# Altium footprint library XW05200-04.PcbLib: 1 footprints
Each footprint in its own frame and in the unit in brackets; x right, y up, seen from the top. Pads: shape width x height; smd on the part's side, far side on the other; paste and mask are expansions set on the pad; w line width, h text height; cw(c..) or ccw(c..) is an arc to the next point about the centre after c.
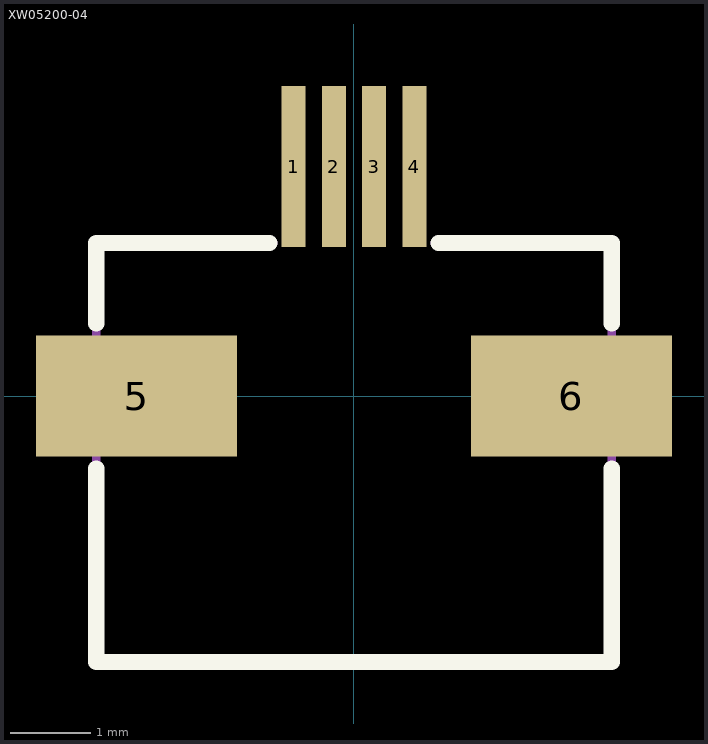
[diagram p0: the footprint, top view; thin cyan lines are the x and y axes]

## XW05200-04 [mm]
pads (6):
  rect 0.3x2 smd: 1(-0.75,2.85) 2(-0.25,2.85) 3(0.25,2.85) 4(0.75,2.85)
  rect 2.5x1.5 smd: 5(-2.7,0) 6(2.7,0)
Top Overlay:
  lines w0.2: -3.2,-0.9 -3.2,-3.3 3.2,-3.3 ; -3.2,0.9 -3.2,1.9 -1.05,1.9 ; 1.05,1.9 3.2,1.9 3.2,0.9 ; 3.2,-0.9 3.2,-3.3 ; 3.2,-3.3 3.2,-3.3 ; 3.2,-3.3 3.2,-3.3
Top Assembly:
  lines w0.1: -1,1.9 -3.2,1.9 -3.2,-3.3 3.2,-3.3 3.2,1.9 1,1.9
  text "'.Designator'" at -0.575,-0.375 h0.7
3D body "Mintron-XW05200-4.STEP": height 2, standoff 0, extent -3.2,-3.15 3.2,2.85